# Altium footprint library FCR7350G.PcbLib: 1 footprints
Each footprint in its own frame and in the unit in brackets; x right, y up, seen from the top. Pads: shape width x height; smd on the part's side, far side on the other; paste and mask are expansions set on the pad; w line width, h text height; cw(c..) or ccw(c..) is an arc to the next point about the centre after c.
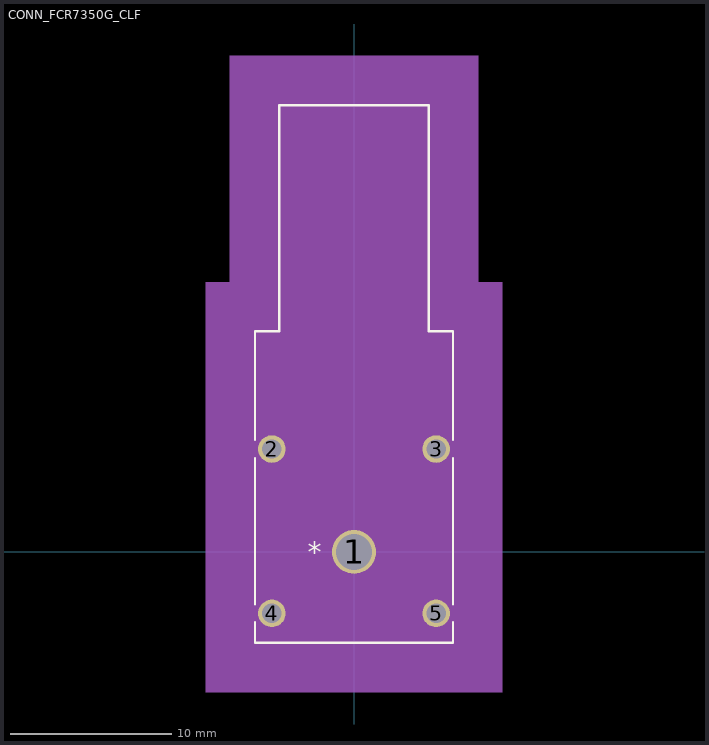
[diagram p0: the footprint, top view; thin cyan lines are the x and y axes]

## CONN_FCR7350G_CLF [mil]
pads (5):
  round 107 hole 87 mask+0: 1(0,0)
  round 67 hole 47: 2(-200,250.39) 3(200,250.39) 4(-200,-149.61) 5(200,-149.61)
Top Overlay:
  lines w6: -241,-171.75 -241,-221.5 241,-221.5 241,-171.75 ; -241,-127.46 -241,228.25 ; -241,272.54 -241,536.5 -182,536.5 -182,1087.5 182,1087.5 182,536.5 241,536.5 241,272.54 ; 241,-127.46 241,228.25
  text "*" at -112.5,-25 h50
Mechanical 5:
  region: 302,1207.5 -302,1207.5 -302,656.5 -361,656.5 -361,-341.5 361,-341.5 361,656.5 302,656.5
Mechanical 13:
  lines w1: -236,-216.5 236,-216.5 236,531.5 -236,531.5 -236,-216.5 ; -177,531.5 177,531.5 177,1082.5 -177,1082.5 -177,531.5
  text "*" at -112.5,-25 h50
Mechanical 15:
  region: 187,1092.5 -187,1092.5 -187,541.5 -246,541.5 -246,-226.5 246,-226.5 246,541.5 187,541.5
  lines w6: -246,-226.5 -246,541.5 -187,541.5 -187,1092.5 187,1092.5 187,541.5 246,541.5 246,-226.5 -246,-226.5
3D body: height 10, standoff 0, extent 0,0 10,10